# Altium footprint library Transistors.PcbLib: 1 footprints
Each footprint in its own frame and in the unit in brackets; x right, y up, seen from the top. Pads: shape width x height; smd on the part's side, far side on the other; paste and mask are expansions set on the pad; w line width, h text height; cw(c..) or ccw(c..) is an arc to the next point about the centre after c.
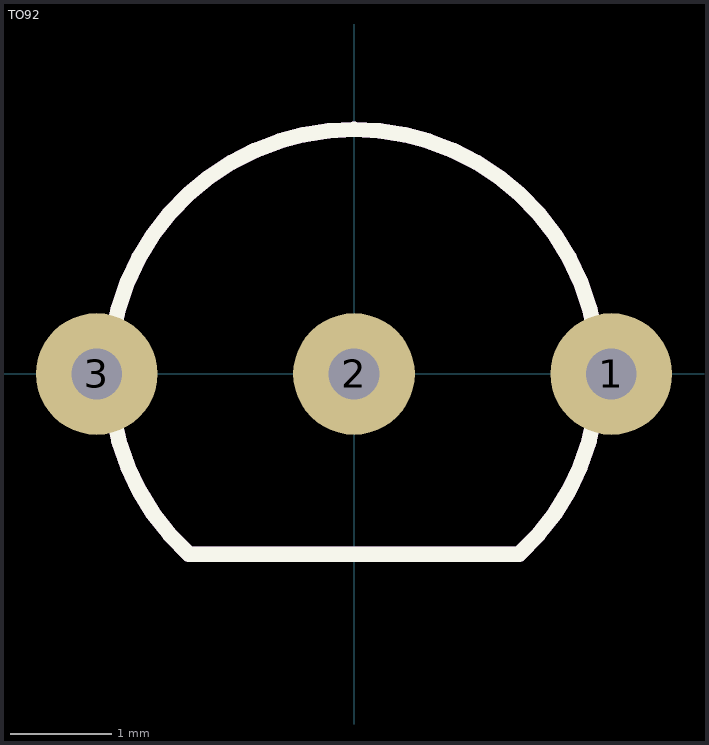
[diagram p0: the footprint, top view; thin cyan lines are the x and y axes]

## TO92 [mil]
pads (3):
  round 47.24 hole 19.69: 1(100,0) 2(0,0) 3(-100,0)
Top Overlay:
  lines w6: -64.21,-70 cw(c0.01,0) -38.15,87 cw(c0,-0.01) 38.16,87 cw(c-0.01,0) 64.21,-70 -64.21,-70
Mechanical 2:
  lines w6: -64.21,-70 cw(c0.01,0) -38.15,87 cw(c0,-0.01) 38.16,87 cw(c-0.01,0) 64.21,-70 -64.21,-70
3D body "alsrobot-TO-92W.STEP": height 255.04, standoff -189.79, extent -108.87,-61 108.87,100.42